# Altium schematic symbol library TPS22.SchLib: 1 symbol
Pins are listed as number, name and electrical type; pins without a type are passive.

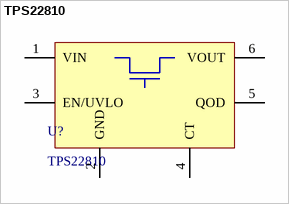
[diagram p0: symbol TPS22810]

## TPS22810
designator U?
79-mΩ On-Resistance Load Switch With Thermal Protection
footprint TPS22810 (DBV)
pins: 1 VIN (power), 2 GND (power), 3 EN/UVLO, 4 CT, 5 QOD (oc), 6 VOUT (power)